# Altium footprint library MS414GE-FL26E.PcbLib: 1 footprints
Each footprint in its own frame and in the unit in brackets; x right, y up, seen from the top. Pads: shape width x height; smd on the part's side, far side on the other; paste and mask are expansions set on the pad; w line width, h text height; cw(c..) or ccw(c..) is an arc to the next point about the centre after c.
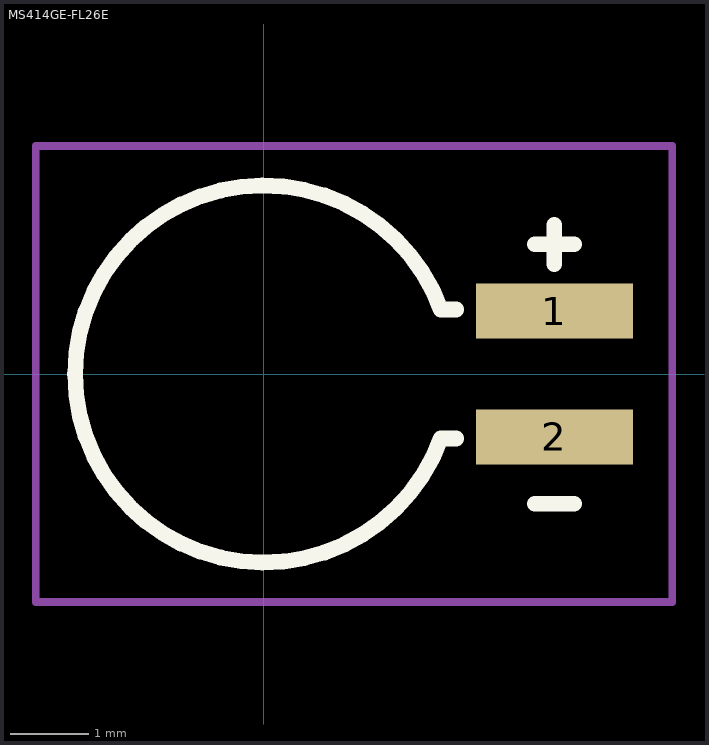
[diagram p0: the footprint, top view; thin cyan lines are the x and y axes]

## MS414GE-FL26E [mm]
pads (2):
  rect 2x0.7 smd: 1(3.7,0.8) 2(3.7,-0.8)
Top Overlay:
  lines w0.2: 2.45,-0.821 2.255,-0.821 cw(c0,0) 2.255,0.821 2.45,0.821 ; 3.45,-1.65 3.95,-1.65 ; 3.45,1.65 3.95,1.65 ; 3.7,1.4 3.7,1.9
Top Courtyard:
  lines w0.1: -2.9,-2.9 -2.9,2.9 5.2,2.9 5.2,-2.9 -2.4,-2.9 -2.9,-2.9
3D body: height 1.65, standoff 0, extent -2.4,-2.4 2.4,2.4